# Altium schematic symbol library DPRAM.SchLib: 1 symbol
Pins are listed as number, name and electrical type; pins without a type are passive.

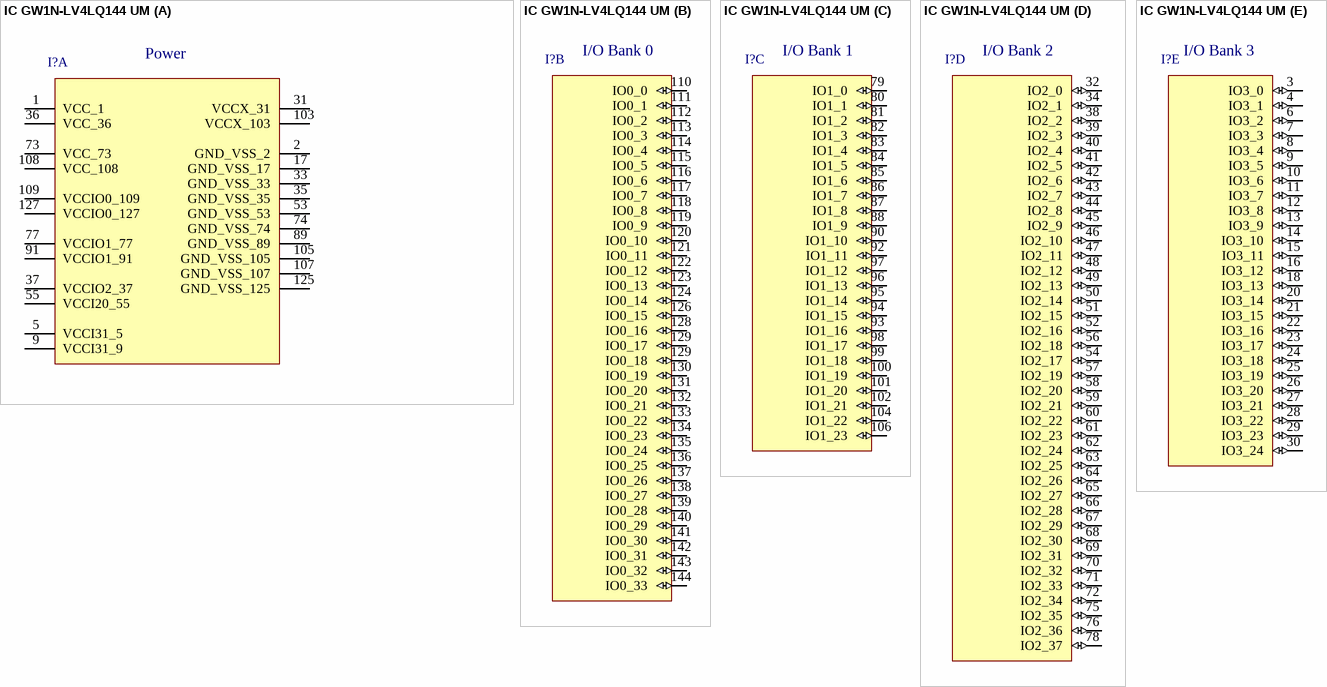
[diagram p0: symbol IC GW1N-LV4LQ144 UM]

## IC GW1N-LV4LQ144 UM
designator I?, comment FPGA - Field Programmable Gate Array  (value not drawn)
FPGA with 180 GPIO's and 180Kbits Block SRAM; Manufacturer: GOWIN; Manufacturer Part Number: GW1N-LV4LQ144C5/I4; Supply Voltage: 1.14V ~ 1.26V; Flash size: 256Kbits; Distributor: Mouser; Distributor Part Number: 192-GW1NLV4LQ144C5I4; Last Revision Date: 5.13.2024.; Temperature Range: 0°C ~ +85°C; Part ID: *; Mounting: SMD; Status: Not Checked; DPRAM: 180Kbits; DB Parameter 1: *; DB Parameter 2: *; DB Parameter 3: *; Production Status: *; Populated: *; ComponentLink1Description: Datasheet; ComponentLink1URL: https://eu.mouser.com/datasheet/2/1033/GW1N_series_of_FPGA_Products_Data_Sheet-1830682.pdf; ComponentLink2Description: Distributor; ComponentLink2URL: https://eu.mouser.com/ProductDetail/GOWIN-Semiconductor/GW1N-LV4LQ144C5-I4?qs=wnTfsH77Xs54528DK%252Byv5g%3D%3D; ComponentLink3Description: Manufacturer; ComponentLink3URL: https://www.gowinsemi.com/en/
footprint IC GW1N-LV4LQ144 UM (FPGA - Field Programmable Gate Array)
part A pins: 1 VCC_1 (power), 2 GND_VSS_2 (power), 5 VCCI31_5 (power), 9 VCCI31_9 (power), 17 GND_VSS_17 (power), 31 VCCX_31 (power), 33 GND_VSS_33 (power), 35 GND_VSS_35 (power), 36 VCC_36 (power), 37 VCCIO2_37 (power), 53 GND_VSS_53 (power), 55 VCCI20_55 (power), 73 VCC_73 (power), 74 GND_VSS_74 (power), 77 VCCIO1_77 (power), 89 GND_VSS_89 (power), 91 VCCIO1_91 (power), 103 VCCX_103 (power), 105 GND_VSS_105 (power), 107 GND_VSS_107 (power), 108 VCC_108 (power), 109 VCCIO0_109 (power), 125 GND_VSS_125 (power), 127 VCCIO0_127 (power)
part B pins: 110 IO0_0 (io), 111 IO0_1 (io), 112 IO0_2 (io), 113 IO0_3 (io), 114 IO0_4 (io), 115 IO0_5 (io), 116 IO0_6 (io), 117 IO0_7 (io), 118 IO0_8 (io), 119 IO0_9 (io), 120 IO0_10 (io), 121 IO0_11 (io), 122 IO0_12 (io), 123 IO0_13 (io), 124 IO0_14 (io), 126 IO0_15 (io), 128 IO0_16 (io), 129 IO0_17 (io), 129 IO0_18 (io), 130 IO0_19 (io), 131 IO0_20 (io), 132 IO0_21 (io), 133 IO0_22 (io), 134 IO0_23 (io), 135 IO0_24 (io), 136 IO0_25 (io), 137 IO0_26 (io), 138 IO0_27 (io), 139 IO0_28 (io), 140 IO0_29 (io), 141 IO0_30 (io), 142 IO0_31 (io), 143 IO0_32 (io), 144 IO0_33 (io)
part C pins: 79 IO1_0 (io), 80 IO1_1 (io), 81 IO1_2 (io), 82 IO1_3 (io), 83 IO1_4 (io), 84 IO1_5 (io), 85 IO1_6 (io), 86 IO1_7 (io), 87 IO1_8 (io), 88 IO1_9 (io), 90 IO1_10 (io), 92 IO1_11 (io), 93 IO1_16 (io), 94 IO1_15 (io), 95 IO1_14 (io), 96 IO1_13 (io), 97 IO1_12 (io), 98 IO1_17 (io), 99 IO1_18 (io), 100 IO1_19 (io), 101 IO1_20 (io), 102 IO1_21 (io), 104 IO1_22 (io), 106 IO1_23 (io)
part D pins: 32 IO2_0 (io), 34 IO2_1 (io), 38 IO2_2 (io), 39 IO2_3 (io), 40 IO2_4 (io), 41 IO2_5 (io), 42 IO2_6 (io), 43 IO2_7 (io), 44 IO2_8 (io), 45 IO2_9 (io), 46 IO2_10 (io), 47 IO2_11 (io), 48 IO2_12 (io), 49 IO2_13 (io), 50 IO2_14 (io), 51 IO2_15 (io), 52 IO2_16 (io), 54 IO2_17 (io), 56 IO2_18 (io), 57 IO2_19 (io), 58 IO2_20 (io), 59 IO2_21 (io), 60 IO2_22 (io), 61 IO2_23 (io), 62 IO2_24 (io), 63 IO2_25 (io), 64 IO2_26 (io), 65 IO2_27 (io), 66 IO2_28 (io), 67 IO2_29 (io), 68 IO2_30 (io), 69 IO2_31 (io), 70 IO2_32 (io), 71 IO2_33 (io), 72 IO2_34 (io), 75 IO2_35 (io), 76 IO2_36 (io), 78 IO2_37 (io)
part E pins: 3 IO3_0 (io), 4 IO3_1 (io), 6 IO3_2 (io), 7 IO3_3 (io), 8 IO3_4 (io), 9 IO3_5 (io), 10 IO3_6 (io), 11 IO3_7 (io), 12 IO3_8 (io), 13 IO3_9 (io), 14 IO3_10 (io), 15 IO3_11 (io), 16 IO3_12 (io), 18 IO3_13 (io), 20 IO3_14 (io), 21 IO3_15 (io), 22 IO3_16 (io), 23 IO3_17 (io), 24 IO3_18 (io), 25 IO3_19 (io), 26 IO3_20 (io), 27 IO3_21 (io), 28 IO3_22 (io), 29 IO3_23 (io), 30 IO3_24 (io)
part A text: Power; /
part B text: I/O Bank 0
part C text: I/O Bank 1
part D text: I/O Bank 2
part E text: I/O Bank 3